# Altium schematic symbol library TRIAC.SchLib: 3 symbols
Pins are listed as number, name and electrical type; pins without a type are passive.

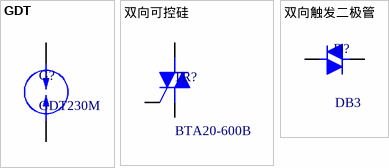
[diagram p0: symbols GDT to 双向触发二极管]

## GDT
designator G?, comment GDT230M
陶瓷气体放电管; ComponentLink1Description: 供应商链接; ComponentLink1URL: http://www.szlcsc.com/product/details_2507.html; Package: SOT-23; Supplier: LC; SuppliersPartNumber: C2150
footprint AXIAL0.8-GDT (Footprint not found)
pins: 1, 2

## 双向可控硅
designator TR?, comment BTA20-600B
footprint TO-220ABC-3P
pins: 1 A1, 2 A2, 3 G

## 双向触发二极管
designator D?, comment DB3
ST DB3 C321
footprint DO-35_DB3
pins: 1 K, 2 A